# Altium schematic symbol library Misc Schematics.SchLib: 10 symbols
Pins are listed as number, name and electrical type; pins without a type are passive.

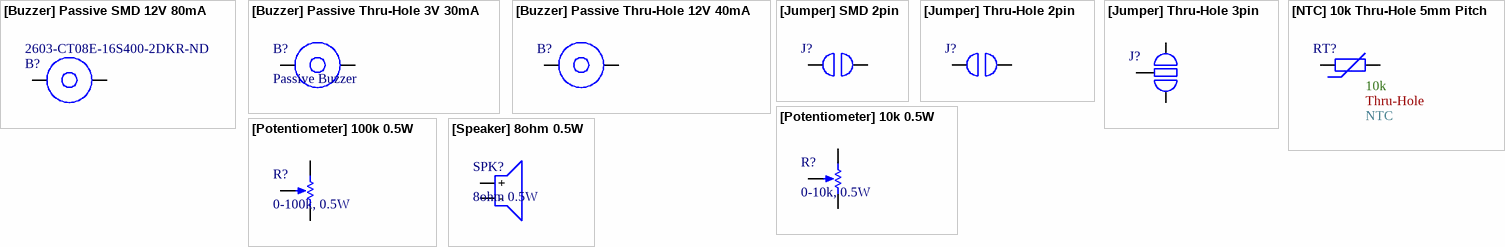
[diagram p0: symbols [Buzzer] Passive SMD 12V 80mA to [Speaker] 8ohm 0.5W]

## [Buzzer] Passive SMD 12V 80mA
designator B?, comment Supplier Part Number 1: 2603-CT08E-16S400-2DKR-ND  (hidden comment: Passive buzzer)
CT08E-16S400-2; Supplier 1: DigiKey
footprint [Buzzer] Passive SMD 12V 80mA (CT08E-16S400-2)
pins: 1 + (power), 2 - (power)

## [Buzzer] Passive Thru-Hole 3V 30mA
designator B?, comment Passive Buzzer
AI-1223-TWT-3V-2-R; Supplier 1: DigiKey; Supplier Part Number 1: 668-1456-ND
footprint [Buzzer] Passive Thru-Hole 3V 30mA (AI-1223-TWT-3V-2-R)
pins: 1 + (power), 2 - (power)

## [Buzzer] Passive Thru-Hole 12V 40mA
designator B?, comment Passive buzzer  (value not drawn)
CEM-1212S; Supplier 1: DigiKey; Supplier Part Number 1: 102-1156-ND
footprint [Buzzer] Passive Thru-Hole 12V 40mA (CEM-1212S)
pins: 1 + (power), 2 - (power)

## [Jumper] SMD 2pin
designator J?  (value not drawn)  (no BOM)
footprint [Jumper] SMD 2pin
pins: 1, 2

## [Jumper] Thru-Hole 2pin
designator J?  (value not drawn)
footprint [Jumper] Thru-Hole 2pin
pins: 1, 2

## [Jumper] Thru-Hole 3pin
designator J?  (value not drawn)  (no BOM)
footprint [Jumper] Thru-Hole 3pin
pins: 1, 2 Common (power), 3

## [NTC] 10k Thru-Hole 5mm Pitch
designator RT?  Mounting Style: Thru-Hole  Technology: NTC  Res at 25degC: 10k  (hidden comment: *)
B57164K0103J000; Supplier 1: DigiKey; Supplier Part Number 1: 495-2080-ND
footprint [NTC] 10k Thru-Hole 5mm Pitch (B57164K0103J000)
pins: 1, 2

## [Potentiometer] 10k 0.5W
designator R?, comment 0-10k, 0.5W
3386T-1-103LF; Supplier 1: DigiKey; Supplier Part Number 1: 118-3386T-1-103LF-ND
footprint [Potentiometer] 10k 0.5W
footprint [Potentiometer] 10k 0.5W (2)
pins: 1 TOP, 2 TAP, 3 BOT

## [Potentiometer] 100k 0.5W
designator R?, comment 0-100k, 0.5W
3386P-1-104LF; Supplier 1: DigiKey; Supplier Part Number 1: 3386P-104LF-ND
footprint [Potentiometer] 10k 0.5W
footprint [Potentiometer] 10k 0.5W (2)
pins: 1 TOP, 2 TAP, 3 BOT

## [Speaker] 8ohm 0.5W
designator SPK?, comment 8ohm 0.5W
CMS-40558N-L152; Supplier 1: DigiKey; Supplier Part Number 1: 102-3851-ND
footprint [Speaker] 8ohm 0.5W (CMS-40558N-L152)
pins: 1 + (power), 2 - (power)